# Altium integrated library SMBJ24A-TR_TVS_DIODE.IntLib: 1 symbol
Pins are listed as number, name and electrical type; pins without a type are passive.

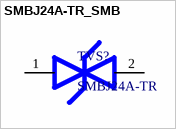
[diagram p0: symbol SMBJ24A-TR_SMB]

## SMBJ24A-TR_SMB
designator TVS?, comment SMBJ24A-TR
38.9V Clamp 16A Ipp TVS Diode SMB; MP: SMBJ24A-TR; Value: *; Price: None; Supplier 1: Newark; Supplier Part Number 1: 95M9069
footprint SMBJ (SMBJ 4.75x3.94mm)
pins: 1, 2